# EAGLE library part SA40-18SYKWA (library SamacSys_Parts)
SA40-18SYKWA Kingbright 7-Segment LED Display, CA Yellow 450 mcd RH DP 101mm Source: Datasheet <http://www.kingbrightusa.com/images/catalog/SPEC/SA40-18SYKWA.pdf>
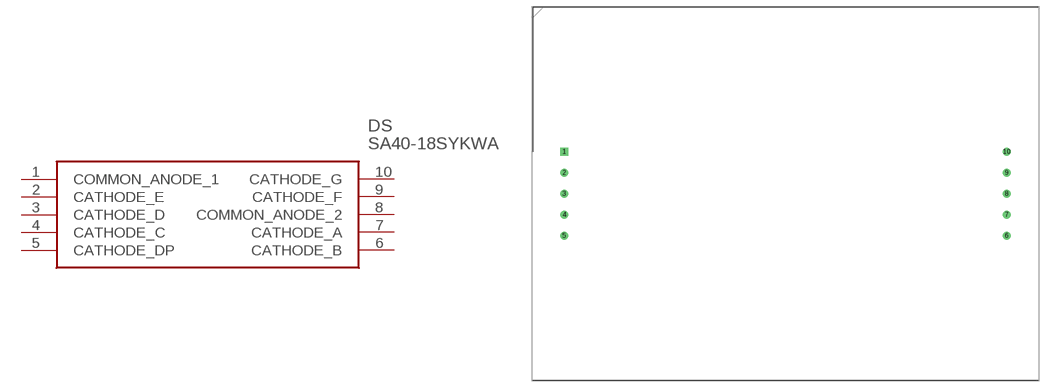
[diagram p0: symbol with the pads of DIPS10700W105P508L9000H1525Q10; footprint DIPS10700W105P508L9000H1525Q10]

Designator prefix DS

## SA40-18SYKWA (Description: SA40-18SYKWA Kingbright 7-Segment LED Display, CA Yellow 450 mcd RH DP 101mm; Height: 15.25mm; Manufacturer_Name: Kingbright; Manufacturer_Part_Number: SA40-18SYKWA; Mouser_Part_Number: 604-SA40-18SYKWA; Mouser_Price-Stock: https://www.mouser.co.uk/ProductDetail/Kingbright/SA40-18SYKWA?qs=FRBiz4Wv1YOpNzQV02Ph2Q%3D%3D)  [DIPS10700W105P508L9000H1525Q10]
1  COMMON_ANODE_1
2  CATHODE_E
3  CATHODE_D
4  CATHODE_C
5  CATHODE_DP
6  CATHODE_B
7  CATHODE_A
8  COMMON_ANODE_2
9  CATHODE_F
10  CATHODE_G

## Footprint DIPS10700W105P508L9000H1525Q10 (pad centres in mm)
SA40-18SYKWA_11
drill 1.25 pad 1.875 square: 1 0,0
drill 1.25 pad 1.875: 2 0,-5.08; 3 0,-10.16; 4 0,-15.24; 5 0,-20.32; 6 107,-20.32; 7 107,-15.24; 8 107,-10.16; 9 107,-5.08; 10 107,0